# Altium schematic symbol library Schlib_Sunlord.SchLib: 13 symbols
Pins are listed as number, name and electrical type; pins without a type are passive.

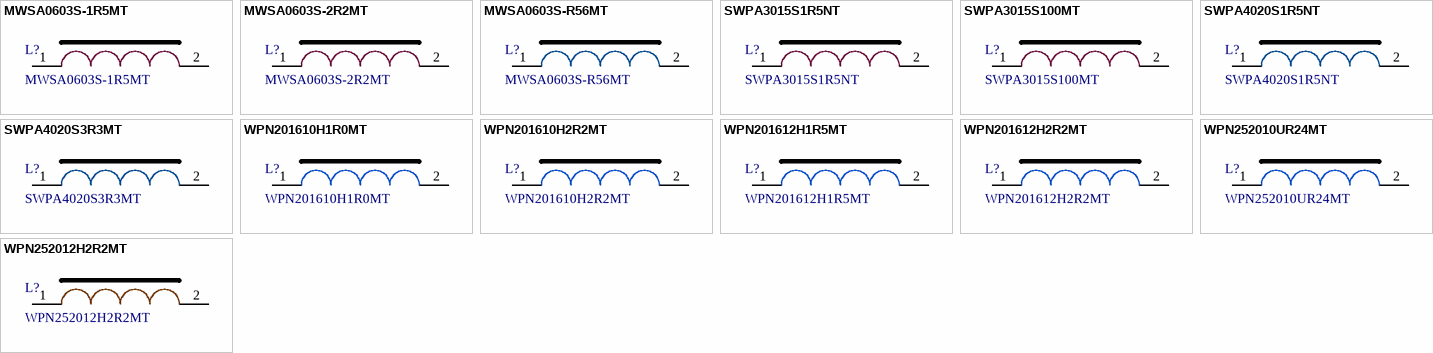
[diagram p0: symbols MWSA0603S-1R5MT to WPN252012H2R2MT]

## MWSA0603S-1R5MT
designator L?
Wire Wound Molded SMD Power Inductor; Manufacturer: Shenzhen Sunlord Electronics; Inductance @ 100 kHz: 1.5 uH; RDC: 12.1 mOhm; Irms  Max: 10.50 A; Irms  Typ: 12.00 A; Isat  Max: 9.60 A; Part Number: MWSA0603S-1R5MT; Package: 6.6mm x 7mm; Isat  Typ: 12.00 A
footprint MWSA0603S
pins: 1, 2

## MWSA0603S-2R2MT
designator L?
Wire Wound Molded SMD Power Inductor; Manufacturer: Shenzhen Sunlord Electronics; Inductance @ 100 kHz: 2.2 uH; RDC: 15 mOhm; Irms  Max: 8.50 A; Irms  Typ: 9.50 A; Isat  Max: 8.00 A; Isat  Typ: 10.00 A; Part Number: MWSA0603S-2R2MT; Package: 6.6mm x 7mm
footprint MWSA0603S
pins: 1, 2

## MWSA0603S-R56MT
designator L?
Wire Wound Molded SMD Power Inductor; Manufacturer: Shenzhen Sunlord Electronics; Inductance @ 100 kHz: 0.56 uH; RDC: 4.5 mOhm; Irms  Max: 15.00 A; Irms  Typ: 16.50 A; Isat  Max: 14.40 A; Isat  Typ: 18.00 A; Part Number: MWSA0603S-R56MT; Package: 6.6mm x 7mm
footprint MWSA0603S
pins: 1, 2

## SWPA3015S1R5NT
designator L?
Wire Wound Molded SMD Power Inductor; Manufacturer: Shenzhen Sunlord Electronics; Inductance @ 100 kHz: 1.5 uH; RDC: 6.5 mOhm; Irms  Max: 1.70 A; Irms  Typ: 2.20 A; Isat  Max: 2.30 A; Isat  Typ: 2.70 A; Part Number: SWPA3015S1R5NT; Package: 3mm x 3mm
footprint SWPA3015S
pins: 1, 2

## SWPA3015S100MT
designator L?
Wire Wound Molded SMD Power Inductor; Manufacturer: Shenzhen Sunlord Electronics; Inductance @ 100 kHz: 10 uH; RDC: 0.25 Ohm; Irms  Typ: 0.77 A; Isat  Typ: 0.72 A; Part Number: SWPA3015S100MT; Package: 3mm x 3mm
footprint SWPA3015S
pins: 1, 2

## SWPA4020S1R5NT
designator L?
Wire Wound Molded SMD Power Inductor; Manufacturer: Shenzhen Sunlord Electronics; Inductance @ 100 kHz: 1.5 uH; RDC: 3.5 mOhm; Irms  Max: 1.98 A; Irms  Typ: 3.00 A; Isat  Max: 4.45 A; Isat  Typ: 4.90 A; Part Number: SWPA4020S1R5NT; Package: 4mm x 4mm
footprint SWPA4020S
pins: 1, 2

## SWPA4020S3R3MT
designator L?
Wire Wound Molded SMD Power Inductor; Manufacturer: Shenzhen Sunlord Electronics; Inductance @ 100 kHz: 3.3 uH; RDC: 7 mOhm; Irms  Max: 1.40 A; Irms  Typ: 2.50 A; Isat  Max: 2.80 A; Isat  Typ: 3.00 A; Part Number: SWPA4020S3R3MT; Package: 4mm x 4mm
footprint SWPA4020S
pins: 1, 2

## WPN201610H1R0MT
designator L?
Wire Wound Molded SMD Power Inductor; Manufacturer: Shenzhen Sunlord Electronics; Inductance @ 1 MHz: 1 uH; RDC: 0.075 Ohm; Irms  Typ: 2.35 A; Isat  Typ: 3.85 A; Part Number: WPN201610H1R0MT; Package: 2mm x 1.6mm
footprint WPN201610H
pins: 1, 2

## WPN201610H2R2MT
designator L?
Wire Wound Molded SMD Power Inductor; Manufacturer: Shenzhen Sunlord Electronics; Inductance @ 1 MHz: 2.2 uH; RDC: 0.060 Ohm; Irms  Typ: 1.70 A; Isat  Typ: 1.90 A; Part Number: WPN201610H2R2MT; Package: 2mm x 1.6mm
footprint WPN201610H
pins: 1, 2

## WPN201612H1R5MT
designator L?
Wire Wound Molded SMD Power Inductor; Manufacturer: Shenzhen Sunlord Electronics; Inductance @ 1 MHz: 1.5 uH; RDC: 0.091 Ohm; Irms  Typ: 2.35 A; Isat  Typ: 2.45 A; Part Number: WPN201612H1R5MT; Package: 2mm x 1.6mm
footprint WPN201612H
pins: 1, 2

## WPN201612H2R2MT
designator L?
Wire Wound Molded SMD Power Inductor; Manufacturer: Shenzhen Sunlord Electronics; Inductance @ 1 MHz: 2.2 uH; RDC: 0.122 Ohm; Irms  Typ: 2.00 A; Isat  Typ: 2.05 A; Part Number: WPN201612H2R2MT; Package: 2mm x 1.6mm
footprint WPN201612H
pins: 1, 2

## WPN252010UR24MT
designator L?
Wire Wound Molded SMD Power Inductor; Manufacturer: Shenzhen Sunlord Electronics; Inductance @ 1 MHz: 0.24 uH; RDC: 0.021 Ohm; Irms  Typ: 5.10 A; Isat  Typ: 10.00 A; Part Number: WPN252010UR24MT; Package: 2.5mm x 2mm
footprint WPN252010U
pins: 1, 2

## WPN252012H2R2MT
designator L?
Wire Wound Molded SMD Power Inductor; Manufacturer: Shenzhen Sunlord Electronics; Inductance @ 1 MHz: 2.2 uH; RDC: 0.129 Ohm; Irms  Typ: 1.80 A; Isat  Typ: 2.20 A; Part Number: WPN252012H2R2MT; Package: 2.5mm x 2mm
footprint WPN252010H
pins: 1, 2